# Altium footprint library RDC2023275X.PcbLib: 1 footprints
Each footprint in its own frame and in the unit in brackets; x right, y up, seen from the top. Pads: shape width x height; smd on the part's side, far side on the other; paste and mask are expansions set on the pad; w line width, h text height; cw(c..) or ccw(c..) is an arc to the next point about the centre after c.
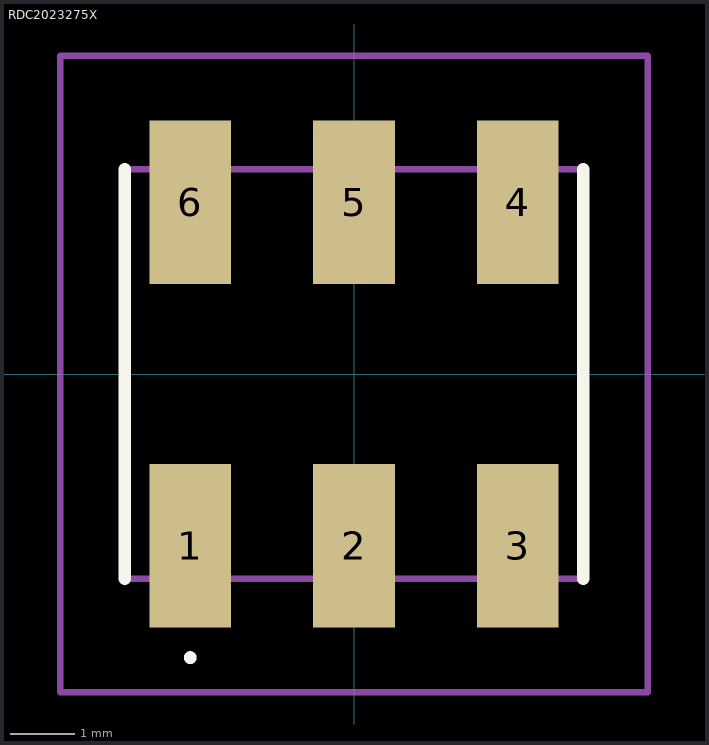
[diagram p0: the footprint, top view; thin cyan lines are the x and y axes]

## RDC2023275X [mm]
pads (6):
  rect 1.27x2.54 smd: 1(-2.54,-2.665) 2(0,-2.665) 3(2.54,-2.665) 4(2.54,2.665) 5(0,2.665) 6(-2.54,2.665)
Top Overlay:
  lines w0.1: -2.54,-4.45 -2.54,-4.45 ; -2.54,-4.45 ccw(c-2.54,-4.4) -2.54,-4.35 ; -2.54,-4.45 cw(c-2.54,-4.4) -2.54,-4.35 ; -2.54,-4.35 -2.54,-4.35
  lines w0.2: -3.555,-3.175 -3.555,3.175 ; 3.555,-3.175 3.555,3.175
Mechanical 15:
  lines w0.1: -3.555,-3.175 3.555,-3.175 3.555,3.175 -3.555,3.175 -3.555,-3.175
Mechanical 20:
  lines w0.1: -4.555,-4.935 4.555,-4.935 4.555,4.935 -4.555,4.935 -4.555,-4.935